# EAGLE library part MKDS-06 (library con-phoenix-500)
MKDSN COMBICON SERIES
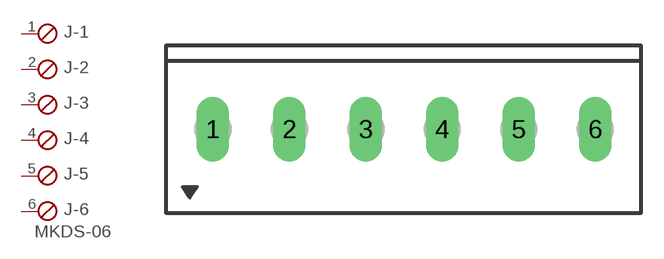
[diagram p12: symbol with the pads of MKDS-06; footprint MKDS-06]

Designator prefix J; gates -1=SKB -2=SKB -3=SKB -4=SKB -5=SKB -6=SKBV

## MKDS-06  [MKDS-06]
1  -1:1  pas
2  -2:1  pas
3  -3:1  pas
4  -4:1  pas
5  -5:1  pas
6  -6:1  pas

## Footprint MKDS-06 (pad centres in mm)
5.00 mm
drill 1.422 long: 1 -12.46,0; 2 -7.46,0; 3 -2.46,0; 4 2.54,0; 5 7.54,0; 6 12.54,0